# Altium footprint library Cubesat_lib.PcbLib: 33 footprints (part 1 of 3)
Each footprint in its own frame and in the unit in brackets; x right, y up, seen from the top. Pads: shape width x height; smd on the part's side, far side on the other; paste and mask are expansions set on the pad; w line width, h text height; cw(c..) or ccw(c..) is an arc to the next point about the centre after c.
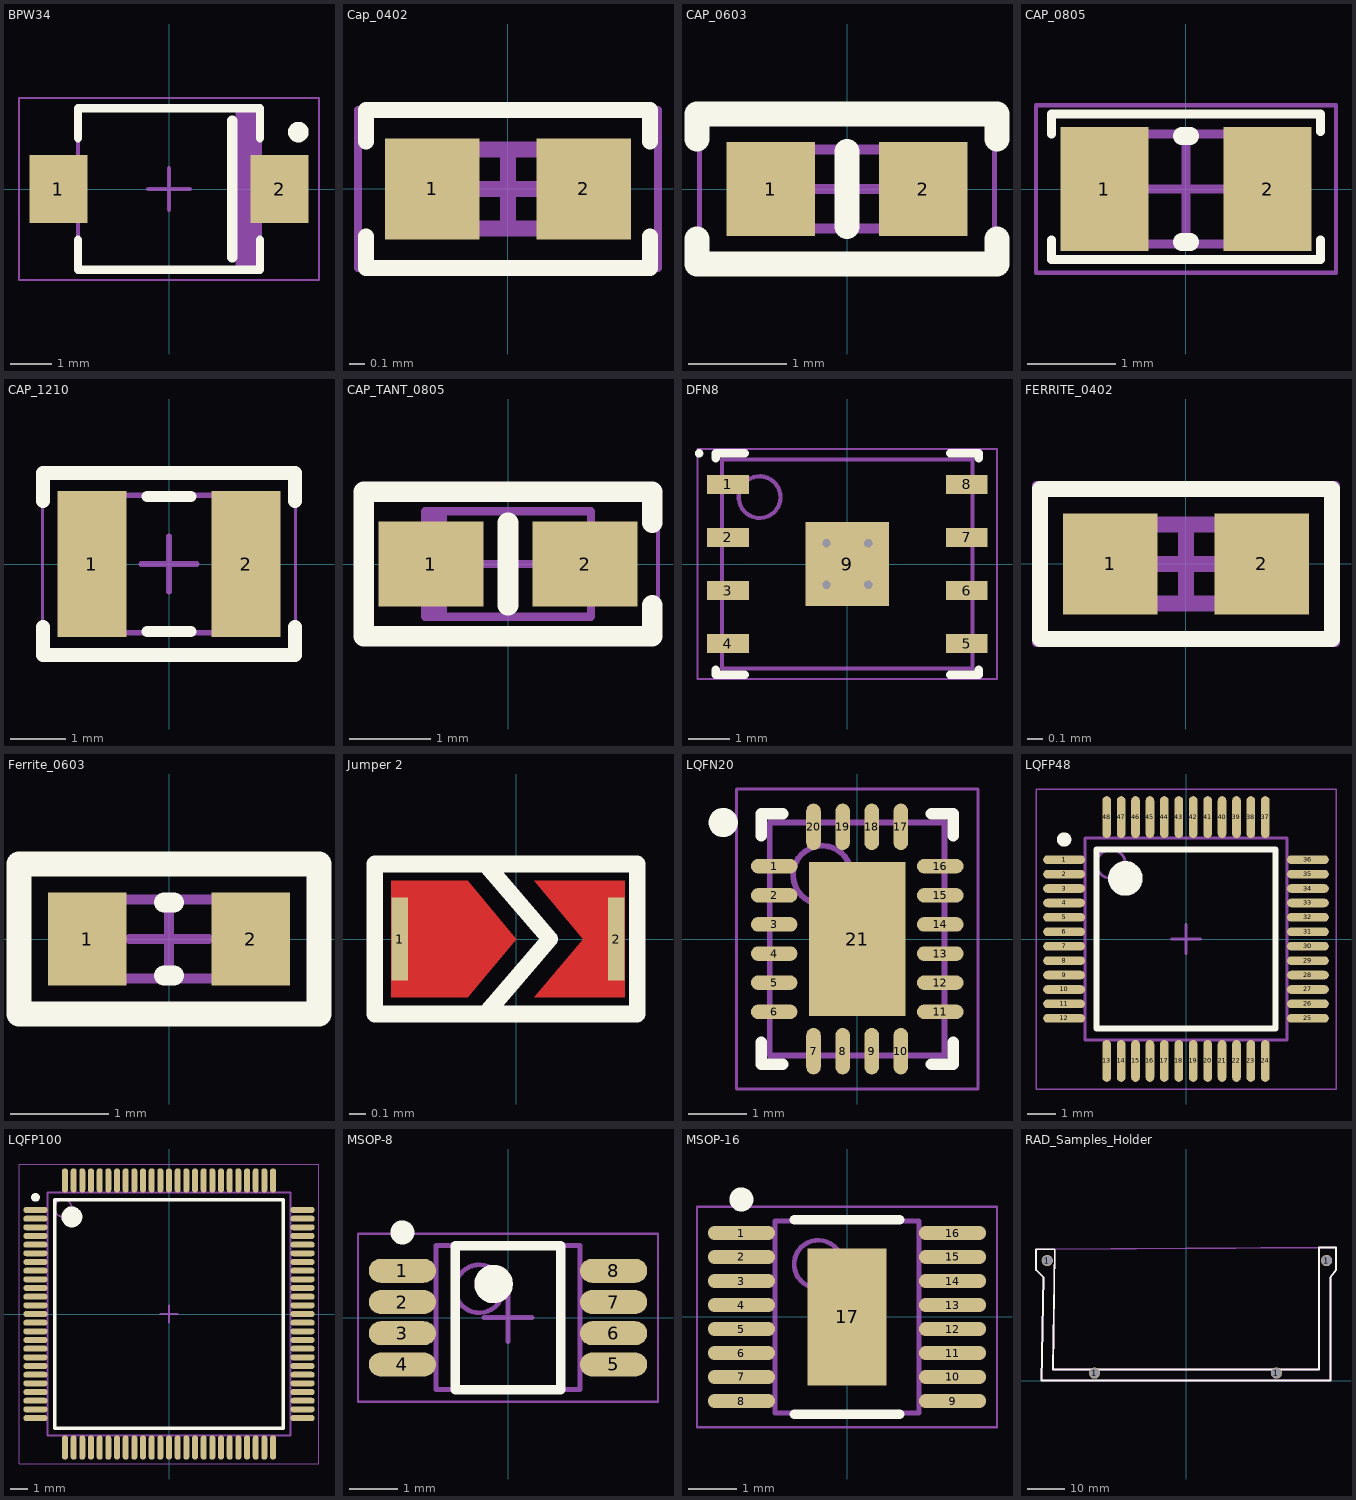
[diagram p0: the footprints below, top view; thin cyan lines are the x and y axes]

## BPW34 [mm] "Molded Diode, 2-Leads, Body 4.40x3.90mm, IPC Medium Density"
height 1.2
pads (2):
  rect 1.4x1.65 smd: 1(-2.675,0) 2(2.675,0)
Top Overlay:
  circle w0.25: c3.125,1.375 r0.125
  lines w0.2: -2.2,-1.225 -2.2,-1.95 2.2,-1.95 2.2,-1.225 ; -2.2,1.225 -2.2,1.95 2.2,1.95 2.2,1.225
  lines w0.254: 1.524,-1.651 1.524,1.651
Mechanical 13:
  rectangle: 1.608,-1.95 2.2,1.95
  lines w0.1: -2.2,-1.95 2.2,-1.95 2.2,1.95 -2.2,1.95 -2.2,-1.95
Mechanical 15:
  lines w0.05: -3.625,-2.2 3.625,-2.2 3.625,2.2 -3.625,2.2 -3.625,-2.2
  lines w0.1: -0.5,0 0.5,0 ; 0,-0.5 0,0.5
3D body "DIOM4439X12N.step": height 1.2, standoff 0, extent -2.42,-1.95 2.42,1.95

## Cap_0402 [mm] "Chip Capacitor, 2-Leads, Body 1.00x0.50mm, IPC Medium Density"
height 0.55
pads (2):
  rect 0.6x0.64 smd: 1(-0.48,0) 2(0.48,0)
Top Overlay:
  lines w0.1: -0.9,-0.3 -0.9,-0.5 0.9,-0.5 0.9,-0.3 ; -0.9,0.3 -0.9,0.5 0.9,0.5 0.9,0.3
Mechanical 13:
  lines w0.1: -0.5,-0.25 -0.5,0.25 0.5,0.25 0.5,-0.25 -0.5,-0.25
Mechanical 15:
  lines w0.05: -0.95,-0.5 -0.95,0.5 0.95,0.5 0.95,-0.5 -0.95,-0.5
  lines w0.1: -0.25,0 0.25,0 ; 0,-0.25 0,0.25
3D body "CAPC1005X06N.step": height 0.55, standoff 0, extent -0.5,-0.25 0.5,0.25

## CAP_0603 [mm] "Chip Capacitor, 2-Leads, Body 1.60x0.80mm, IPC Medium Density"
height 0.8
pads (2):
  rect 0.9x0.95 smd: 1(-0.775,0) 2(0.775,0)
Top Overlay:
  lines w0.254: -1.524,-0.508 -1.524,-0.762 1.524,-0.762 1.524,-0.508 ; -1.524,0.508 -1.524,0.762 1.524,0.762 1.524,0.508 ; 0,-0.381 0,0.381
Mechanical 13:
  lines w0.1: -0.8,-0.4 0.8,-0.4 0.8,0.4 -0.8,0.4 -0.8,-0.4
Mechanical 15:
  lines w0.05: -1.5,-0.75 1.5,-0.75 1.5,0.75 -1.5,0.75 -1.5,-0.75
  lines w0.1: -0.4,0 0.4,0 ; 0,-0.4 0,0.4
3D body "CAPC1608X08N.step": height 0.8, standoff 0, extent -0.8,-0.4 0.8,0.4

## CAP_0805 [mm] "Chip Capacitor, 2-Leads, Body 2.00x1.25mm, IPC Medium Density"
height 1.25
pads (2):
  rect 1x1.4 smd: 1(-0.925,0) 2(0.925,0)
Top Overlay:
  lines w0.1: -1.525,-0.575 -1.525,-0.8 1.525,-0.8 1.525,-0.575 ; -1.525,0.625 -1.525,0.85 1.525,0.85 1.525,0.65
  lines w0.2: -0.05,-0.6 0.05,-0.6 ; -0.05,0.6 0.05,0.6
Mechanical 13:
  lines w0.1: -1,-0.625 1,-0.625 1,0.625 -1,0.625 -1,-0.625
Mechanical 15:
  lines w0.05: -1.7,-0.95 1.7,-0.95 1.7,0.95 -1.7,0.95 -1.7,-0.95
  lines w0.1: -0.5,0 0.5,0 ; 0,-0.5 0,0.5
3D body "CAPC2012X12N.step": height 1.25, standoff 0, extent -1,-0.625 1,0.625

## CAP_1210 [mm] "Chip Capacitor, 2-Leads, Body 3.20x2.50mm, IPC Medium Density"
height 1.6
pads (2):
  rect 1.25x2.65 smd: 1(-1.4,0) 2(1.4,0)
Top Overlay:
  lines w0.2: -0.4,-1.225 0.4,-1.225 ; -0.4,1.225 0.4,1.225
  lines w0.254: -2.286,-1.143 -2.286,-1.651 2.286,-1.651 2.286,-1.143 ; -2.286,1.143 -2.286,1.651 2.286,1.651 2.286,1.143
Mechanical 13:
  lines w0.1: -1.6,-1.25 -1.6,1.25 1.6,1.25 1.6,-1.25 -1.6,-1.25
Mechanical 15:
  lines w0.05: -2.3,-1.6 -2.3,1.6 2.3,1.6 2.3,-1.6 -2.3,-1.6
  lines w0.1: -0.5,0 0.5,0 ; 0,-0.5 0,0.5
3D body "CAPC3225X16N.step": height 1.6, standoff 0, extent -1.6,-1.25 1.6,1.25

## CAP_TANT_0805 [mm] "Molded Capacitor, 2-Leads, Body 2.05x1.30mm, IPC Medium Density"
height 1.2
pads (2):
  rect 1.3x1.05 smd: 1(-0.95,0) 2(0.95,0)
Top Overlay:
  lines w0.254: 0,-0.508 0,0.508 ; 1.778,-0.508 1.778,-0.889 -1.778,-0.889 -1.778,0.889 1.778,0.889 1.778,0.508
Mechanical 13:
  rectangle: -1.025,-0.65 -0.749,0.65
  lines w0.1: -1.025,-0.65 1.025,-0.65 1.025,0.65 -1.025,0.65 -1.025,-0.65
Mechanical 15:
  lines w0.05: -1.85,-0.9 1.85,-0.9 1.85,0.9 -1.85,0.9 -1.85,-0.9
  lines w0.1: -0.5,0 0.5,0 ; 0,-0.5 0,0.5
3D body "CAPMP2013X12N.step": height 1.2, standoff 0, extent -1.245,-0.65 1.245,0.65

## DFN8 [mm] "SON, 8-Leads, Body 5.00x6.00mm, Pitch 1.27mm, Thermal Pad 2.00x2.00mm, IPC Medium Density"
height 0.85
pads (9):
  rect 1x0.45 smd: 1(-2.86,1.905) 2(-2.86,0.635) 3(-2.86,-0.635) 4(-2.86,-1.905) 5(2.86,-1.905) 6(2.86,-0.635) 7(2.86,0.635) 8(2.86,1.905)
  rect 2x2 smd: 9(0,0)
via 0.5,-0.5 diameter 0.5 hole 0.2
via -0.5,-0.5 diameter 0.5 hole 0.2
via 0.5,0.5 diameter 0.5 hole 0.2
via -0.5,0.5 diameter 0.5 hole 0.2
Top Overlay:
  circle w0.1: c-3.55,2.65 r0.05
  lines w0.2: -3.15,-2.53 -3.15,-2.65 -2.46,-2.65 ; -3.15,2.53 -3.15,2.65 -2.46,2.65 ; 2.46,-2.65 3.15,-2.65 3.15,-2.53 ; 2.46,2.65 3.15,2.65 3.15,2.53
Mechanical 13:
  circle w0.1: c-2.1,1.6 r0.5
  lines w0.1: -3,-2.5 3,-2.5 3,2.5 -3,2.5 -3,-2.5
Mechanical 15:
  lines w0.05: -3.585,-2.75 3.585,-2.75 3.585,2.75 -3.585,2.75 -3.585,-2.75
  lines w0.1: -0.5,0 0.5,0 ; 0,-0.5 0,0.5
3D body "SON127P600X85_HS-9N.step": height 0.85, standoff 0, extent -3,-2.5 3,2.5

## FERRITE_0402 [mm] "Chip Inductor, 2-Leads, Body 1.00x0.50mm, IPC Medium Density"
height 0.5
pads (2):
  rect 0.6x0.64 smd: 1(-0.48,0) 2(0.48,0)
Top Overlay:
  lines w0.1: -0.925,-0.475 -0.925,0.475 0.925,0.475 0.925,-0.475 -0.925,-0.475
Mechanical 13:
  lines w0.1: -0.5,-0.25 -0.5,0.25 0.5,0.25 0.5,-0.25 -0.5,-0.25
Mechanical 15:
  lines w0.05: -0.95,-0.5 -0.95,0.5 0.95,0.5 0.95,-0.5 -0.95,-0.5
  lines w0.1: -0.25,0 0.25,0 ; 0,-0.25 0,0.25
3D body "INDC1005X05N.step": height 0.5, standoff 0, extent -0.5,-0.25 0.5,0.25

## Ferrite_0603 [mm] "Chip Inductor, 2-Leads, Body 1.60x0.80mm, IPC Medium Density"
height 0.8
pads (2):
  rect 0.8x0.94 smd: 1(-0.83,0) 2(0.83,0)
Top Overlay:
  lines w0.2: -0.05,-0.37 0.05,-0.37 ; -0.05,0.37 0.05,0.37
  lines w0.254: -1.524,-0.762 -1.524,-0.508 -1.524,0.508 -1.524,0.762 1.524,0.762 1.524,0.508 1.524,-0.508 1.524,-0.762 -1.524,-0.762
Mechanical 13:
  lines w0.1: -0.8,-0.4 0.8,-0.4 0.8,0.4 -0.8,0.4 -0.8,-0.4
Mechanical 15:
  lines w0.05: -1.5,-0.75 1.5,-0.75 1.5,0.75 -1.5,0.75 -1.5,-0.75
  lines w0.1: -0.4,0 0.4,0 ; 0,-0.4 0,0.4
3D body "INDC1608X08N.step": height 0.8, standoff 0, extent -0.8,-0.4 0.8,0.4

## Jumper 2 [mm] "Chip Resistor, 2-Leads, Body 2.00x1.20mm, IPC Medium Density"
height 0.55
pads (2):
  rect 0.1x0.5 smd: 1(-0.7,0) 2(0.6,0)
Top Layer:
  region: 0.108,-0.35 0.4,0 0.108,0.35 0.65,0.35 0.65,-0.35
  region: -0.75,-0.35 -0.292,-0.35 0,0 -0.292,0.35 -0.75,0.35
Top Overlay:
  lines w0.1: -0.171,-0.432 0.2,0 -0.171,0.432 ; -0.85,-0.45 -0.85,0.45 0.725,0.45 0.725,-0.45 -0.85,-0.45

## LQFN20 [mm] "QFN, 20-Leads, Body 3.00x4.00mm, Pitch 0.50mm, Thermal Pad 1.66x2.65mm, IPC Medium Density"
height 0.94
pads (21):
  oval 0.8x0.25 smd: 1(-1.425,1.25) 2(-1.425,0.75) 3(-1.425,0.25) 4(-1.425,-0.25) 5(-1.425,-0.75) 6(-1.425,-1.25) 11(1.425,-1.25) 12(1.425,-0.75) 13(1.425,-0.25) 14(1.425,0.25) 15(1.425,0.75) 16(1.425,1.25)
  oval 0.25x0.8 smd: 7(-0.75,-1.925) 8(-0.25,-1.925) 9(0.25,-1.925) 10(0.75,-1.925) 17(0.75,1.925) 18(0.25,1.925) 19(-0.25,1.925) 20(-0.75,1.925)
  rect 1.66x2.65 smd: 21(0,0)
Top Overlay:
  circle w0.25: c-2.3,2 r0.125
  lines w0.2: -1.65,-1.775 -1.65,-2.15 -1.275,-2.15 ; -1.65,1.775 -1.65,2.15 -1.275,2.15 ; 1.275,-2.15 1.65,-2.15 1.65,-1.775 ; 1.275,2.15 1.65,2.15 1.65,1.775
Mechanical 13:
  circle w0.1: c-0.6,1.1 r0.5
  lines w0.1: -1.5,-2 -1.5,2 1.5,2 1.5,-2 -1.5,-2
Mechanical 15:
  lines w0.05: -2.075,-2.575 -2.075,2.575 2.075,2.575 2.075,-2.575 -2.075,-2.575
  lines w0.1: -0.5,0 0.5,0 ; 0,-0.5 0,0.5
3D body "QFN50P300X400X94_HS-21N.step": height 0.94, standoff 0, extent -1.55,-2.05 1.55,2.05

## LQFP48 [mm] "TSQFP, 48-Leads, Body 7.00x7.00mm, Pitch 0.50mm, IPC Medium Density"
height 1.6
pads (48):
  oval 1.45x0.3 smd: 1(-4.225,2.75) 2(-4.225,2.25) 3(-4.225,1.75) 4(-4.225,1.25) 5(-4.225,0.75) 6(-4.225,0.25) 7(-4.225,-0.25) 8(-4.225,-0.75) 9(-4.225,-1.25) 10(-4.225,-1.75) 11(-4.225,-2.25) 12(-4.225,-2.75) 25(4.225,-2.75) 26(4.225,-2.25) 27(4.225,-1.75) 28(4.225,-1.25) 29(4.225,-0.75) 30(4.225,-0.25) 31(4.225,0.25) 32(4.225,0.75) 33(4.225,1.25) 34(4.225,1.75) 35(4.225,2.25) 36(4.225,2.75)
  oval 0.3x1.45 smd: 13(-2.75,-4.225) 14(-2.25,-4.225) 15(-1.75,-4.225) 16(-1.25,-4.225) 17(-0.75,-4.225) 18(-0.25,-4.225) 19(0.25,-4.225) 20(0.75,-4.225) 21(1.25,-4.225) 22(1.75,-4.225) 23(2.25,-4.225) 24(2.75,-4.225) 37(2.75,4.225) 38(2.25,4.225) 39(1.75,4.225) 40(1.25,4.225) 41(0.75,4.225) 42(0.25,4.225) 43(-0.25,4.225) 44(-0.75,4.225) 45(-1.25,4.225) 46(-1.75,4.225) 47(-2.25,4.225) 48(-2.75,4.225)
Top Overlay:
  circle w0.25: c-4.225,3.45 r0.125
  circle w0.6: c-2.1,2.1 r0.3
  lines w0.2: -3.1,-3.1 -3.1,3.1 3.1,3.1 3.1,-3.1 -3.1,-3.1
Mechanical 13:
  circle w0.1: c-2.6,2.6 r0.5
  lines w0.1: -3.5,-3.5 -3.5,3.5 3.5,3.5 3.5,-3.5 -3.5,-3.5
Mechanical 15:
  lines w0.05: -5.2,-5.2 -5.2,5.2 5.2,5.2 5.2,-5.2 -5.2,-5.2
  lines w0.1: -0.5,0 0.5,0 ; 0,-0.5 0,0.5
3D body "TSQFP50P900X900X160-48N.step": height 1.6, standoff 0, extent -4.5,-4.5 4.5,4.5

## LQFP100 [mm] "TSQFP, 100-Leads, Body 14.00x14.00mm, Pitch 0.50mm, IPC Medium Density"
height 1.6
pads (100):
  oval 1.4x0.35 smd: 1(-7.7,6) 2(-7.7,5.5) 3(-7.7,5) 4(-7.7,4.5) 5(-7.7,4) 6(-7.7,3.5) 7(-7.7,3) 8(-7.7,2.5) 9(-7.7,2) 10(-7.7,1.5) 11(-7.7,1) 12(-7.7,0.5) 13(-7.7,0) 14(-7.7,-0.5) 15(-7.7,-1) 16(-7.7,-1.5) 17(-7.7,-2) 18(-7.7,-2.5) 19(-7.7,-3) 20(-7.7,-3.5) 21(-7.7,-4) 22(-7.7,-4.5) 23(-7.7,-5) 24(-7.7,-5.5) 25(-7.7,-6) 51(7.7,-6) 52(7.7,-5.5) 53(7.7,-5) 54(7.7,-4.5) 55(7.7,-4) 56(7.7,-3.5) 57(7.7,-3) 58(7.7,-2.5) 59(7.7,-2) 60(7.7,-1.5) 61(7.7,-1) 62(7.7,-0.5) 63(7.7,0) 64(7.7,0.5) 65(7.7,1) 66(7.7,1.5) 67(7.7,2) 68(7.7,2.5) 69(7.7,3) 70(7.7,3.5) 71(7.7,4) 72(7.7,4.5) 73(7.7,5) 74(7.7,5.5) 75(7.7,6)
  oval 0.35x1.4 smd: 26(-6,-7.7) 27(-5.5,-7.7) 28(-5,-7.7) 29(-4.5,-7.7) 30(-4,-7.7) 31(-3.5,-7.7) 32(-3,-7.7) 33(-2.5,-7.7) 34(-2,-7.7) 35(-1.5,-7.7) 36(-1,-7.7) 37(-0.5,-7.7) 38(0,-7.7) 39(0.5,-7.7) 40(1,-7.7) 41(1.5,-7.7) 42(2,-7.7) 43(2.5,-7.7) 44(3,-7.7) 45(3.5,-7.7) 46(4,-7.7) 47(4.5,-7.7) 48(5,-7.7) 49(5.5,-7.7) 50(6,-7.7) 76(6,7.7) 77(5.5,7.7) 78(5,7.7) 79(4.5,7.7) 80(4,7.7) 81(3.5,7.7) 82(3,7.7) 83(2.5,7.7) 84(2,7.7) 85(1.5,7.7) 86(1,7.7) 87(0.5,7.7) 88(0,7.7) 89(-0.5,7.7) 90(-1,7.7) 91(-1.5,7.7) 92(-2,7.7) 93(-2.5,7.7) 94(-3,7.7) 95(-3.5,7.7) 96(-4,7.7) 97(-4.5,7.7) 98(-5,7.7) 99(-5.5,7.7) 100(-6,7.7)
Top Overlay:
  circle w0.25: c-7.7,6.725 r0.125
  circle w0.6: c-5.6,5.6 r0.3
  lines w0.2: -6.6,-6.6 -6.6,6.6 6.6,6.6 6.6,-6.6 -6.6,-6.6
Mechanical 13:
  circle w0.1: c-6.1,6.1 r0.5
  lines w0.1: -7,-7 -7,7 7,7 7,-7 -7,-7
Mechanical 15:
  lines w0.05: -8.65,-8.65 -8.65,8.65 8.65,8.65 8.65,-8.65 -8.65,-8.65
  lines w0.1: -0.5,0 0.5,0 ; 0,-0.5 0,0.5
3D body "TSQFP50P1600X1600X160-100N.step": height 1.6, standoff 0, extent -8,-8 8,8

## MSOP-8 [mm] "TSOP, 8-Leads, Body 3.00x3.00mm, Pitch 0.65mm, IPC Medium Density"
height 0.9
pads (8):
  oval 1.4x0.5 smd: 1(-2.2,0.975) 2(-2.2,0.325) 3(-2.2,-0.325) 4(-2.2,-0.975) 5(2.2,-0.975) 6(2.2,-0.325) 7(2.2,0.325) 8(2.2,0.975)
Top Overlay:
  circle w0.4: c-0.3,0.7 r0.2
  circle w0.25: c-2.2,1.775 r0.125
  lines w0.2: -1.1,-1.5 1.1,-1.5 1.1,1.5 -1.1,1.5 -1.1,-1.5
Mechanical 13:
  circle w0.1: c-0.6,0.6 r0.5
  lines w0.1: -1.5,-1.5 1.5,-1.5 1.5,1.5 -1.5,1.5 -1.5,-1.5
Mechanical 15:
  lines w0.05: -3.125,-1.75 3.125,-1.75 3.125,1.75 -3.125,1.75 -3.125,-1.75
  lines w0.1: -0.5,0 0.5,0 ; 0,-0.5 0,0.5
3D body "TSOP65P490X90-8N.step": height 0.9, standoff 0, extent -2.45,-1.5 2.45,1.5

## MSOP-16 [mm] "TSSOP, 16-Leads, Body 4.04x3.00mm, Pitch 0.50mm, Thermal Pad 2.85x1.65mm, IPC Medium Density"
height 1.1
pads (17):
  oval 1.4x0.3 smd: 1(-2.2,1.75) 2(-2.2,1.25) 3(-2.2,0.75) 4(-2.2,0.25) 5(-2.2,-0.25) 6(-2.2,-0.75) 7(-2.2,-1.25) 8(-2.2,-1.75) 9(2.2,-1.75) 10(2.2,-1.25) 11(2.2,-0.75) 12(2.2,-0.25) 13(2.2,0.25) 14(2.2,0.75) 15(2.2,1.25) 16(2.2,1.75)
  rect 1.65x2.85 smd: 17(0,0)
Top Overlay:
  circle w0.25: c-2.2,2.45 r0.125
  lines w0.2: -1.1,-2.025 1.1,-2.025 ; -1.1,2.025 1.1,2.025
Mechanical 13:
  circle w0.1: c-0.6,1.1 r0.5
  lines w0.1: -1.5,-2 1.5,-2 1.5,2 -1.5,2 -1.5,-2
Mechanical 15:
  lines w0.05: -3.125,-2.3 3.125,-2.3 3.125,2.3 -3.125,2.3 -3.125,-2.3
  lines w0.1: -0.5,0 0.5,0 ; 0,-0.5 0,0.5
3D body "TSSOP50P490X110_HS-17N.step": height 1.1, standoff 0, extent -2.45,-2 2.45,2

## RAD_Samples_Holder [mm]
pads (4):
  round 3 hole 2.75: 1(-37,32) 1(-24.4,2) 1(24.1,2) 1(37.5,32)
Top Overlay:
  lines w0.5: -40,29.5 -38,27.5 -38.5,0 38.5,0 38.5,27.5 40,29.5 40,35.5 35.5,35.5 35.5,3 -35.5,3 -34.992,35 -40,35 -40,29.5
Bottom Overlay:
  lines w0.5: -40,29.5 -40,35 40,35.5 40,29.5 38.5,27.5 38.5,0 -38.5,0 -38,27.5 -40,29.5
Mechanical 11:
  lines w0.5: -40,29.5 -40,35 ; -40,29.5 -38,27.5 -38.5,0 38.5,0 38.5,27.5 40,29.5 40,35.5 35.5,35.5 35.5,3 -35.5,3 -35,35 -40,35 ; -40,29.5 -40,35
Mechanical 15:
  lines w0.5: -40,29.5 -40,35 40,35.5 40,29.5 38.5,27.5 38.5,0 -38.5,0 -38,27.5 -40,29.5
3D body "RAD_holder_assembly.stp": height 6, standoff -5.6, extent -40,-0.25 40,35